# EAGLE library part 8BIT-NAND-FLASH (library ORBiT-IC-NAND-FLASH)
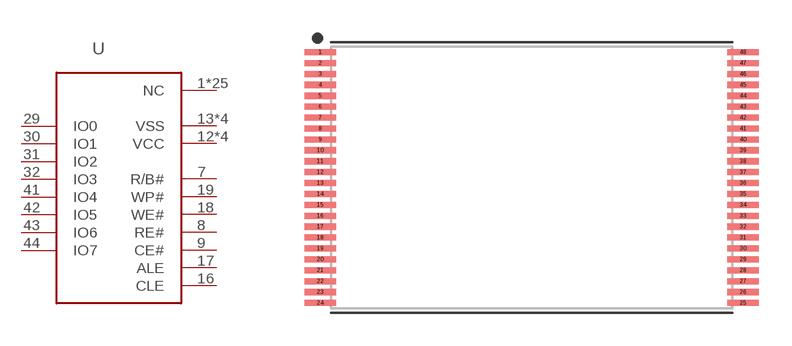
[diagram p0: symbol with the pads of 48-PINTSOP; footprint 48-PINTSOP]

Designator prefix -

## 8BIT-NAND-FLASH  [48-PINTSOP]
1  NC  nc
2  NC  nc
3  NC  nc
4  NC  nc
5  NC  nc
6  NC  nc
7  R/B#
8  RE#
9  CE#
10  NC  nc
11  NC  nc
12  VCC  pwr
13  VSS  pwr
14  NC  nc
15  NC  nc
16  CLE
17  ALE
18  WE#
19  WP#
20  NC  nc
21  NC  nc
22  NC  nc
23  NC  nc
24  NC  nc
25  VSS  pwr
26  NC  nc
27  NC  nc
28  NC  nc
29  IO0
30  IO1
31  IO2
32  IO3
33  NC  nc
34  VSS  pwr
35  VCC  pwr
36  NC  nc
37  VCC  pwr
38  NC  nc
39  VCC  pwr
40  NC  nc
41  IO4
42  IO5
43  IO6
44  IO7
45  NC  nc
46  NC  nc
47  NC  nc
48  VSS  pwr

## Footprint 48-PINTSOP (pad centres in mm)
48-SOP, 0.50 mm pitch, 20.00 mm span, 12.00 X 18.40 X 1.20 mm body 48-pin SOP package with 0.50 mm pitch, 20.00 mm span with body size 12.00 X 18.40 X 1.20 mm
smd 1.437 x 0.28: 1 -9.687,5.75; 2 -9.687,5.25; 3 -9.687,4.75; 4 -9.687,4.25; 5 -9.687,3.75; 6 -9.687,3.25; 7 -9.687,2.75; 8 -9.687,2.25; 9 -9.687,1.75; 10 -9.687,1.25; 11 -9.687,0.75; 12 -9.687,0.25; 13 -9.687,-0.25; 14 -9.687,-0.75; 15 -9.687,-1.25; 16 -9.687,-1.75; 17 -9.687,-2.25; 18 -9.687,-2.75; 19 -9.687,-3.25; 20 -9.687,-3.75; 21 -9.687,-4.25; 22 -9.687,-4.75; 23 -9.687,-5.25; 24 -9.687,-5.75; 25 9.687,-5.75; 26 9.687,-5.25; 27 9.687,-4.75; 28 9.687,-4.25; 29 9.687,-3.75; 30 9.687,-3.25; 31 9.687,-2.75; 32 9.687,-2.25; 33 9.687,-1.75; 34 9.687,-1.25; 35 9.687,-0.75; 36 9.687,-0.25; 37 9.687,0.25; 38 9.687,0.75; 39 9.687,1.25; 40 9.687,1.75; 41 9.687,2.25; 42 9.687,2.75; 43 9.687,3.25; 44 9.687,3.75; 45 9.687,4.25; 46 9.687,4.75; 47 9.687,5.25; 48 9.687,5.75